# Altium footprint library CAPPA2134W54L610D381.PcbLib: 1 footprints
Each footprint in its own frame and in the unit in brackets; x right, y up, seen from the top. Pads: shape width x height; smd on the part's side, far side on the other; paste and mask are expansions set on the pad; w line width, h text height; cw(c..) or ccw(c..) is an arc to the next point about the centre after c.
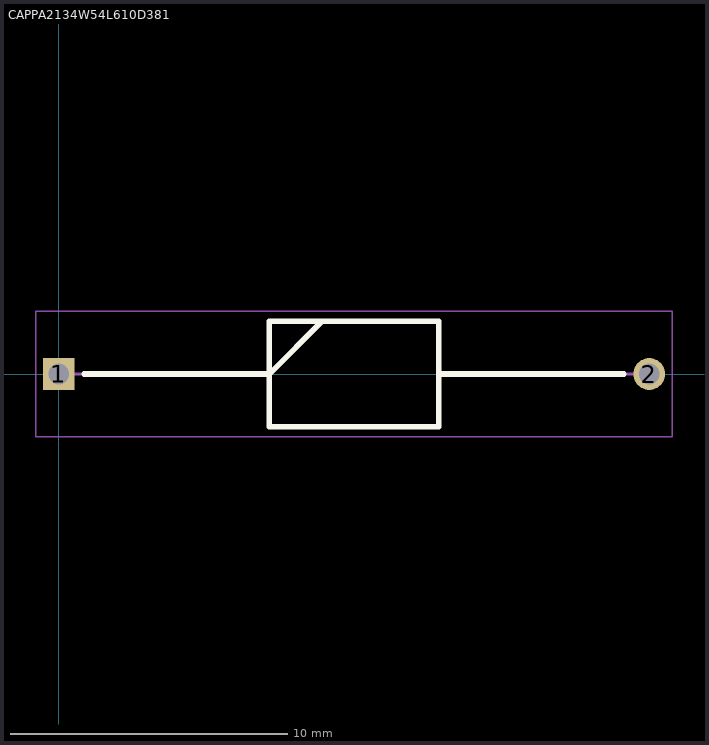
[diagram p0: the footprint, top view; thin cyan lines are the x and y axes]

## CAPPA2134W54L610D381 [mm]
pads (2):
  rect 1.15x1.15 / inner round 1.15 / far side rect 1.15x1.15 hole 0.75: 1(0,0)
  round 1.15 hole 0.75: 2(21.3,0)
Top Overlay:
  lines w0.2: 0.925,0 7.6,0 9.505,1.905 ; 13.7,0 20.375,0 ; 7.6,-1.905 13.7,-1.905 13.7,1.905 7.6,1.905 7.6,-1.905
Mechanical 15:
  lines w0.1: 0,0 7.6,0 9.505,1.905 ; 13.7,0 21.3,0 ; 7.6,-1.905 13.7,-1.905 13.7,1.905 7.6,1.905 7.6,-1.905
Mechanical 20:
  lines w0.05: -0.825,-2.255 22.125,-2.255 22.125,2.255 -0.825,2.255 -0.825,-2.255